# EAGLE library part LTC3586 (library Lysenko_Eagle_Lib)
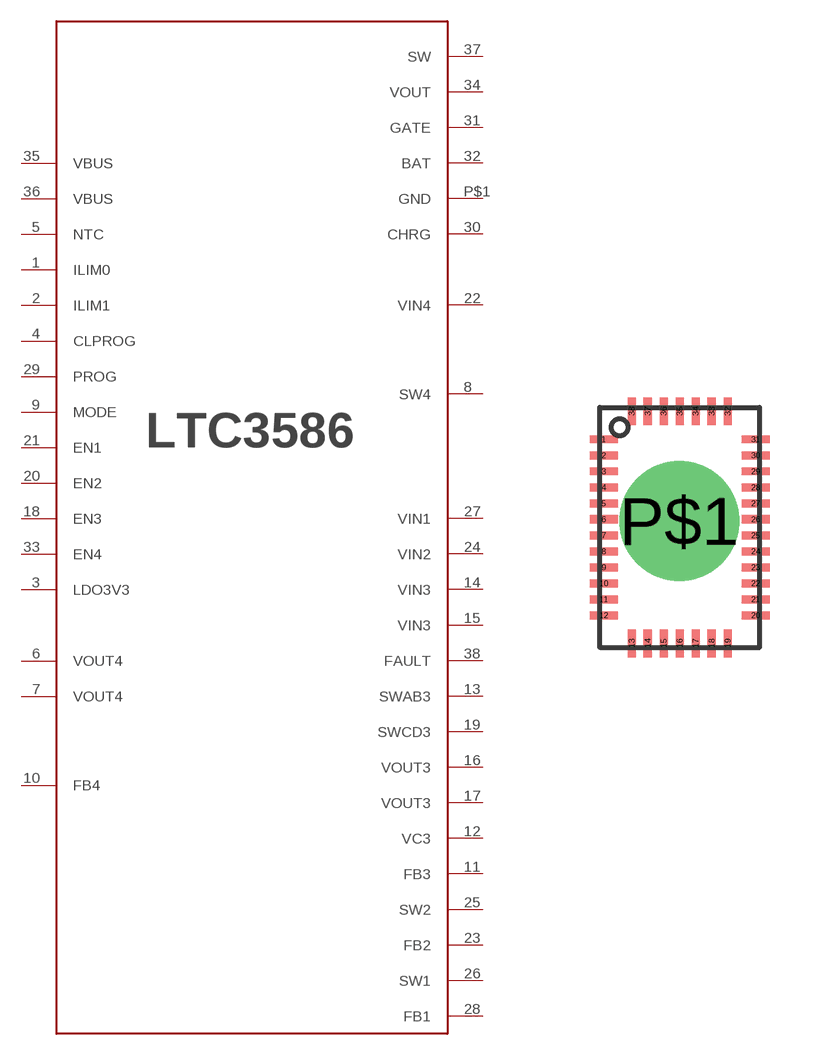
[diagram p8: symbol with the pads of LTC_QFN38; footprint LTC_QFN38]

Designator prefix -

## LTC3586  [LTC_QFN38]
1  ILIM0
2  ILIM1
3  LDO3V3
4  CLPROG
5  NTC
6  VOUT4
7  VOUT4
8  SW4
9  MODE
10  FB4
11  FB3
12  VC3
13  SWAB3
14  VIN3
15  VIN3
16  VOUT3
17  VOUT3
18  EN3
19  SWCD3
20  EN2
21  EN1
22  VIN4
23  FB2
24  VIN2
25  SW2
26  SW1
27  VIN1
28  FB1
29  PROG
30  CHRG
31  GATE
32  BAT
33  EN4
34  VOUT
35  VBUS
36  VBUS
37  SW
38  FAULT
P$1  GND

## Footprint LTC_QFN38 (pad centres in mm)
smd 0.7 x 0.2: 1 0.1,5.2; 2 0.1,4.8; 3 0.1,4.4; 4 0.1,4; 5 0.1,3.6; 6 0.1,3.2; 7 0.1,2.8; 8 0.1,2.4; 9 0.1,2; 10 0.1,1.6; 11 0.1,1.2; 12 0.1,0.8; 20 3.9,0.8; 21 3.9,1.2; 22 3.9,1.6; 23 3.9,2; 24 3.9,2.4; 25 3.9,2.8; 26 3.9,3.2; 27 3.9,3.6; 28 3.9,4; 29 3.9,4.4; 30 3.9,4.8; 31 3.9,5.2
smd 0.2 x 0.7: 13 0.8,0.1; 14 1.2,0.1; 15 1.6,0.1; 16 2,0.1; 17 2.4,0.1; 18 2.8,0.1; 19 3.2,0.1; 32 3.2,5.9; 33 2.8,5.9; 34 2.4,5.9; 35 2,5.9; 36 1.6,5.9; 37 1.2,5.9; 38 0.8,5.9
drill 2 pad 2.184: P$1 1.99,3.16